# Altium footprint library descret_pcb.PcbLib: 152 footprints (part 7 of 10)
Each footprint in its own frame and in the unit in brackets; x right, y up, seen from the top. Pads: shape width x height; smd on the part's side, far side on the other; paste and mask are expansions set on the pad; w line width, h text height; cw(c..) or ccw(c..) is an arc to the next point about the centre after c.
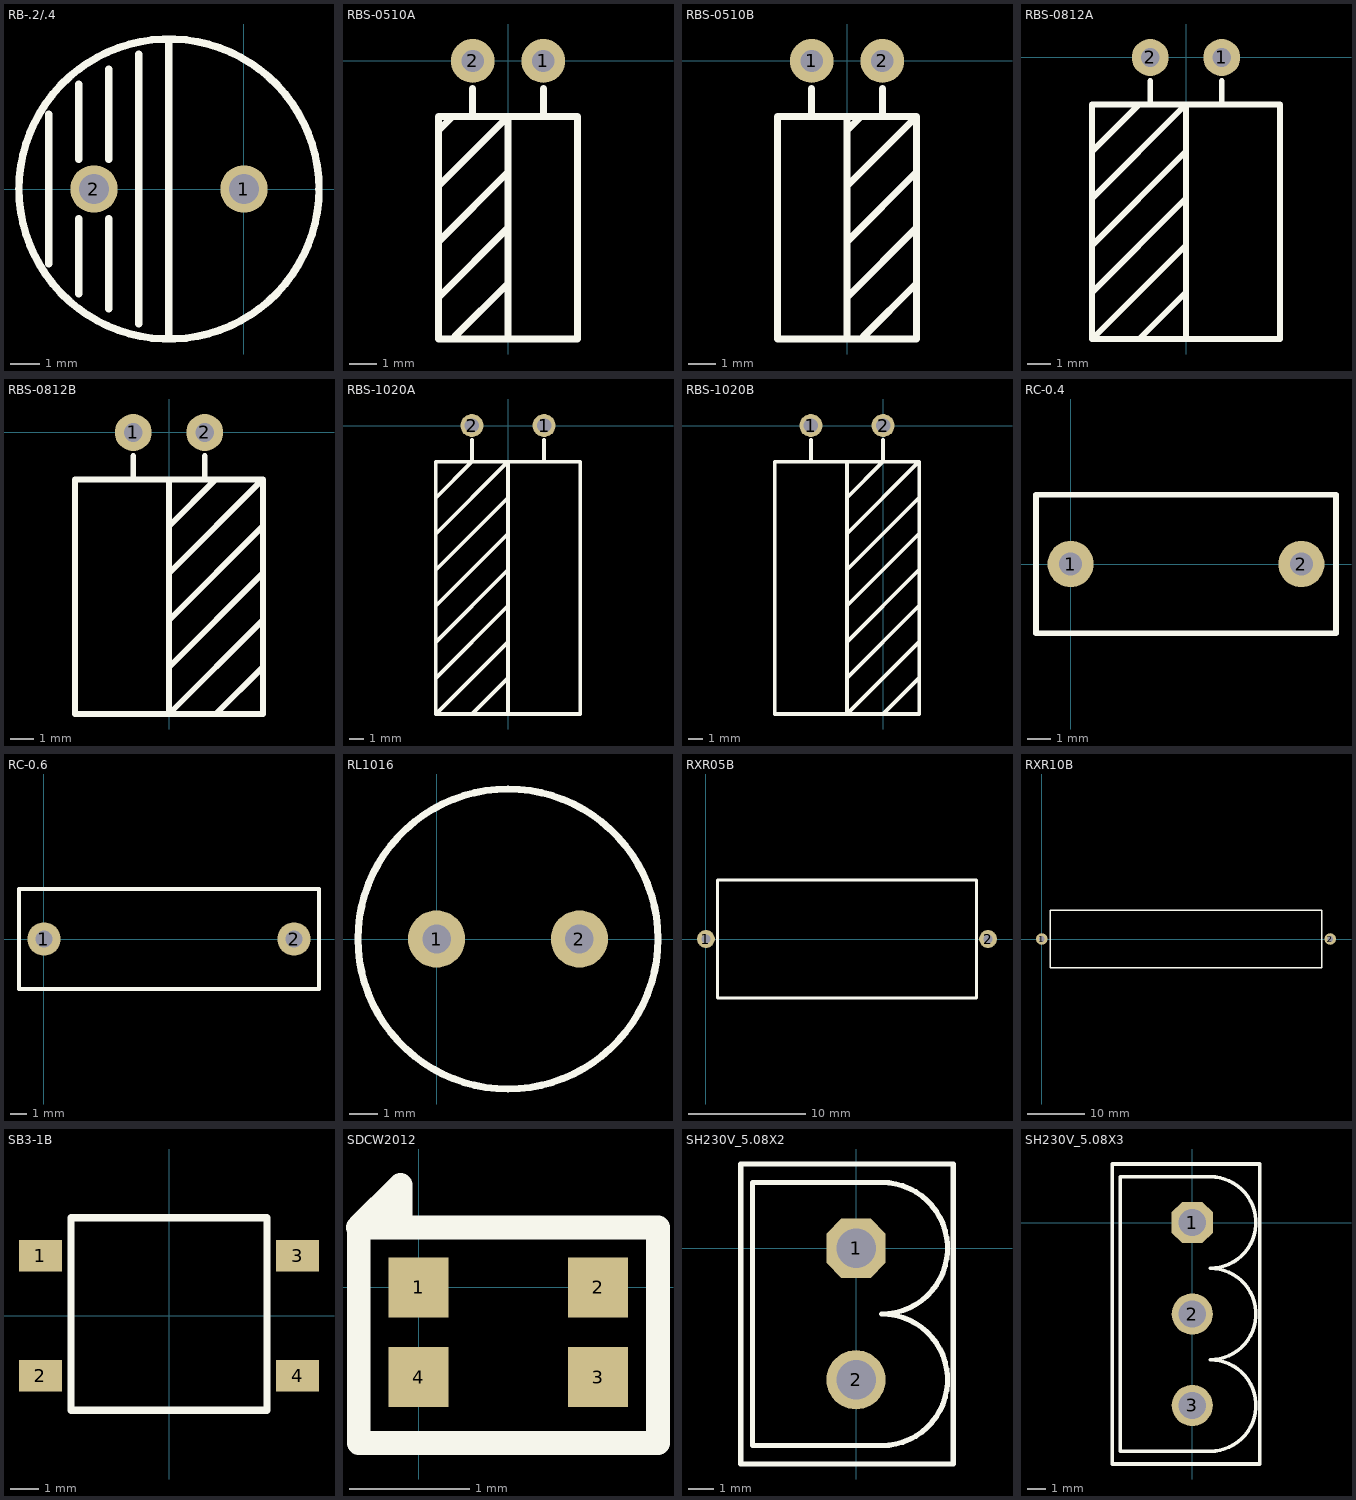
[diagram p6: the footprints below, top view; thin cyan lines are the x and y axes]

## RB-.2/.4 [mm]
pads (2):
  round 1.6 hole 1: 1(0,0) 2(-5.08,0)
TopOverlay:
  circle w0.254: c-2.54,0 r5.08
  lines w0.254: -6.604,-2.54 -6.604,2.54 ; -5.588,-3.556 -5.588,-1.016 ; -5.588,1.016 -5.588,3.556 ; -4.572,-4.064 -4.572,-1.016 ; -4.572,1.016 -4.572,4.064 ; -3.556,-4.572 -3.556,4.572 ; -2.54,-5.08 -2.54,5.08
3D body "User Library-Cap-EL(10x16-5).STEP": height 16, standoff -3.3, extent -7.6,-4.993 2.402,4.993

## RBS-0510A [mil]
pads (2):
  round 62 hole 31.5: 1(50,0) 2(-50,0)
TopOverlay:
  lines w10: -96.46,-332.68 0,-236.22 ; -96.46,-253.94 0,-157.48 ; -96.46,-175.2 0,-78.74 0,-393.7 ; -96.46,-96.46 -78.74,-78.74 ; -74.8,-389.76 0,-314.96 ; -50,-78.74 -50,-39.37 ; 50,-78.74 50,-39.37 ; 0,-393.7 0,-393.7 ; -98.43,-393.7 98.43,-393.7 98.43,-78.74 -98.43,-78.74 -98.43,-393.7

## RBS-0510B [mil]
pads (2):
  round 62 hole 31.5: 1(-50,0) 2(50,0)
TopOverlay:
  lines w10: -50,-78.74 -50,-39.37 ; 0,-393.7 0,-78.74 ; 1.97,-332.68 98.43,-236.22 ; 1.97,-253.94 98.43,-157.48 ; 1.97,-175.2 98.43,-78.74 ; 1.97,-96.46 19.68,-78.74 ; 23.62,-389.76 98.43,-314.96 ; 50,-78.74 50,-39.37 ; 98.43,-78.74 98.43,-393.7 -98.43,-393.7 -98.43,-78.74 98.43,-78.74

## RBS-0812A [mil]
pads (2):
  round 62 hole 31.5: 1(60,0) 2(-60,0)
TopOverlay:
  lines w10: -157.48,-393.7 0,-236.22 ; -157.48,-314.96 0,-157.48 ; -157.48,-236.22 0,-78.74 0,-472.44 ; -157.48,-157.48 -78.74,-78.74 ; -78.74,-472.44 0,-393.7 ; -60,-78.74 -60,-39.37 ; 0,-314.96 -157.48,-472.44 ; 60,-78.74 60,-39.37 ; -157.48,-472.44 -157.48,-78.74 157.48,-78.74 157.48,-472.44 -157.48,-472.44 ; 0,-393.7 0,-393.7

## RBS-0812B [mil]
pads (2):
  round 62 hole 31.5: 1(-60,0) 2(60,0)
TopOverlay:
  lines w10: -60,-78.74 -60,-39.37 ; 0,-393.7 157.48,-236.22 ; 0,-314.96 157.48,-157.48 ; 0,-236.22 157.48,-78.74 ; 0,-157.48 78.74,-78.74 ; 0,-78.74 0,-472.44 157.48,-314.96 ; 60,-78.74 60,-39.37 ; 78.74,-472.44 157.48,-393.7 ; 78.74,-78.74 78.74,-78.74 ; 157.48,-78.74 -157.48,-78.74 -157.48,-472.44 157.48,-472.44 157.48,-78.74

## RBS-1020A [mm]
pads (2):
  round 1.6 hole 1: 1(2.5,0) 2(-2.5,0)
TopOverlay:
  lines w0.254: -5,-17.5 0,-12.5 ; -5,-15 0,-10 ; -5,-12.5 0,-7.5 ; -5,-10 0,-5 ; -5,-7.5 0,-2.5 0,-20 ; -5,-5 -2.5,-2.5 -2.5,-1 ; -2.5,-20 0,-17.5 ; 0,-15 -5,-20 ; 2.5,-2.5 2.5,-1 ; -5,-20 -5,-2.5 5,-2.5 5,-20 -5,-20

## RBS-1020B [mm]
pads (2):
  round 1.6 hole 1: 1(-5,0) 2(0,0)
TopOverlay:
  lines w0.254: -5,-2.5 -5,-1 ; -2.5,-17.5 2.5,-12.5 ; -2.5,-15 2.5,-10 ; -2.5,-12.5 2.5,-7.5 ; -2.5,-10 2.5,-5 ; -2.5,-7.5 2.5,-2.5 ; -2.5,-5 0,-2.5 0,-1 ; -2.5,-2.5 -2.5,-20 2.5,-15 ; 0,-20 2.5,-17.5 ; 2.5,-2.5 -7.5,-2.5 -7.5,-20 2.5,-20 2.5,-2.5

## RC-0.4 [mm]
pads (2):
  round 2 hole 1: 1(0,0) 2(10,0)
TopOverlay:
  lines w0.254: -1.5,-3 -1.5,3 11.5,3 11.5,-3 -1.5,-3

## RC-0.6 [mm]
pads (2):
  round 2 hole 1: 1(0,0) 2(15,0)
TopOverlay:
  lines w0.254: -1.5,-3 16.5,-3 16.5,3 -1.5,3 -1.5,-3

## RL1016 [mil]
pads (2):
  round 80 hole 40: 1(0,0) 2(200,0)
TopOverlay:
  circle w10: c100,0 r210

## RXR05B [mil]
pads (2):
  round 60 hole 30: 1(0,0) 2(944.88,0)
TopOverlay:
  lines w10: 39.37,-196.85 905.51,-196.85 905.51,196.85 39.37,196.85 39.37,-196.85

## RXR10B [mm]
pads (2):
  round 2 hole 1: 1(0,0) 2(50,0)
TopOverlay:
  lines w0.254: 1.5,-5 48.5,-5 48.5,5 1.5,5 1.5,-5

## SB3-1B [mm]
pads (4):
  rect 1.5x1.1 smd: 1(-4.5,2.095) 2(-4.5,-2.095) 3(4.5,2.095) 4(4.5,-2.095)
TopOverlay:
  lines w0.254: -3.429,-3.302 3.429,-3.302 3.429,3.429 -3.429,3.429 -3.429,-3.302

## SDCW2012 [mm]
pads (4):
  rect 0.5x0.5 smd: 1(0,0) 2(1.5,0) 3(1.5,-0.75) 4(0,-0.75)
TopOverlay:
  lines w0.2: -0.506,0.5 2,0.5 2,-1.3 -0.5,-1.3 -0.5,0.506 -0.151,0.856 -0.151,0.525 -0.481,0.525

## SH230V_5.08X2 [mil]
pads (2):
  oct 90x90 hole 60: 1(0,0)
  round 90 hole 60: 2(0,-200)
TopOverlay:
  lines w8: -175.2,-327.95 -175.2,127.95 147.64,127.95 147.64,-327.95 -175.2,-327.95 ; -157.48,-300 -157.48,100 39,100 cw(c39,0) 39,-100 cw(c39,-200) 39,-300 -157.48,-300

## SH230V_5.08X3 [mil]
pads (3):
  oct 90x90 hole 60: 1(0,0)
  round 90 hole 60: 2(0,-200) 3(0,-400)
TopOverlay:
  lines w8: -175.2,-527.95 -175.2,127.95 147.64,127.95 147.64,-527.95 -175.2,-527.95 ; -157.48,-500 -157.48,100 39,100 cw(c39,0) 39,-100 cw(c39,-200) 39,-300 cw(c39,-400) 39,-500 -157.48,-500